# Altium footprint library CONN_USB.PcbLib: 34 footprints (part 2 of 3)
Each footprint in its own frame and in the unit in brackets; x right, y up, seen from the top. Pads: shape width x height; smd on the part's side, far side on the other; paste and mask are expansions set on the pad; w line width, h text height; cw(c..) or ccw(c..) is an arc to the next point about the centre after c.
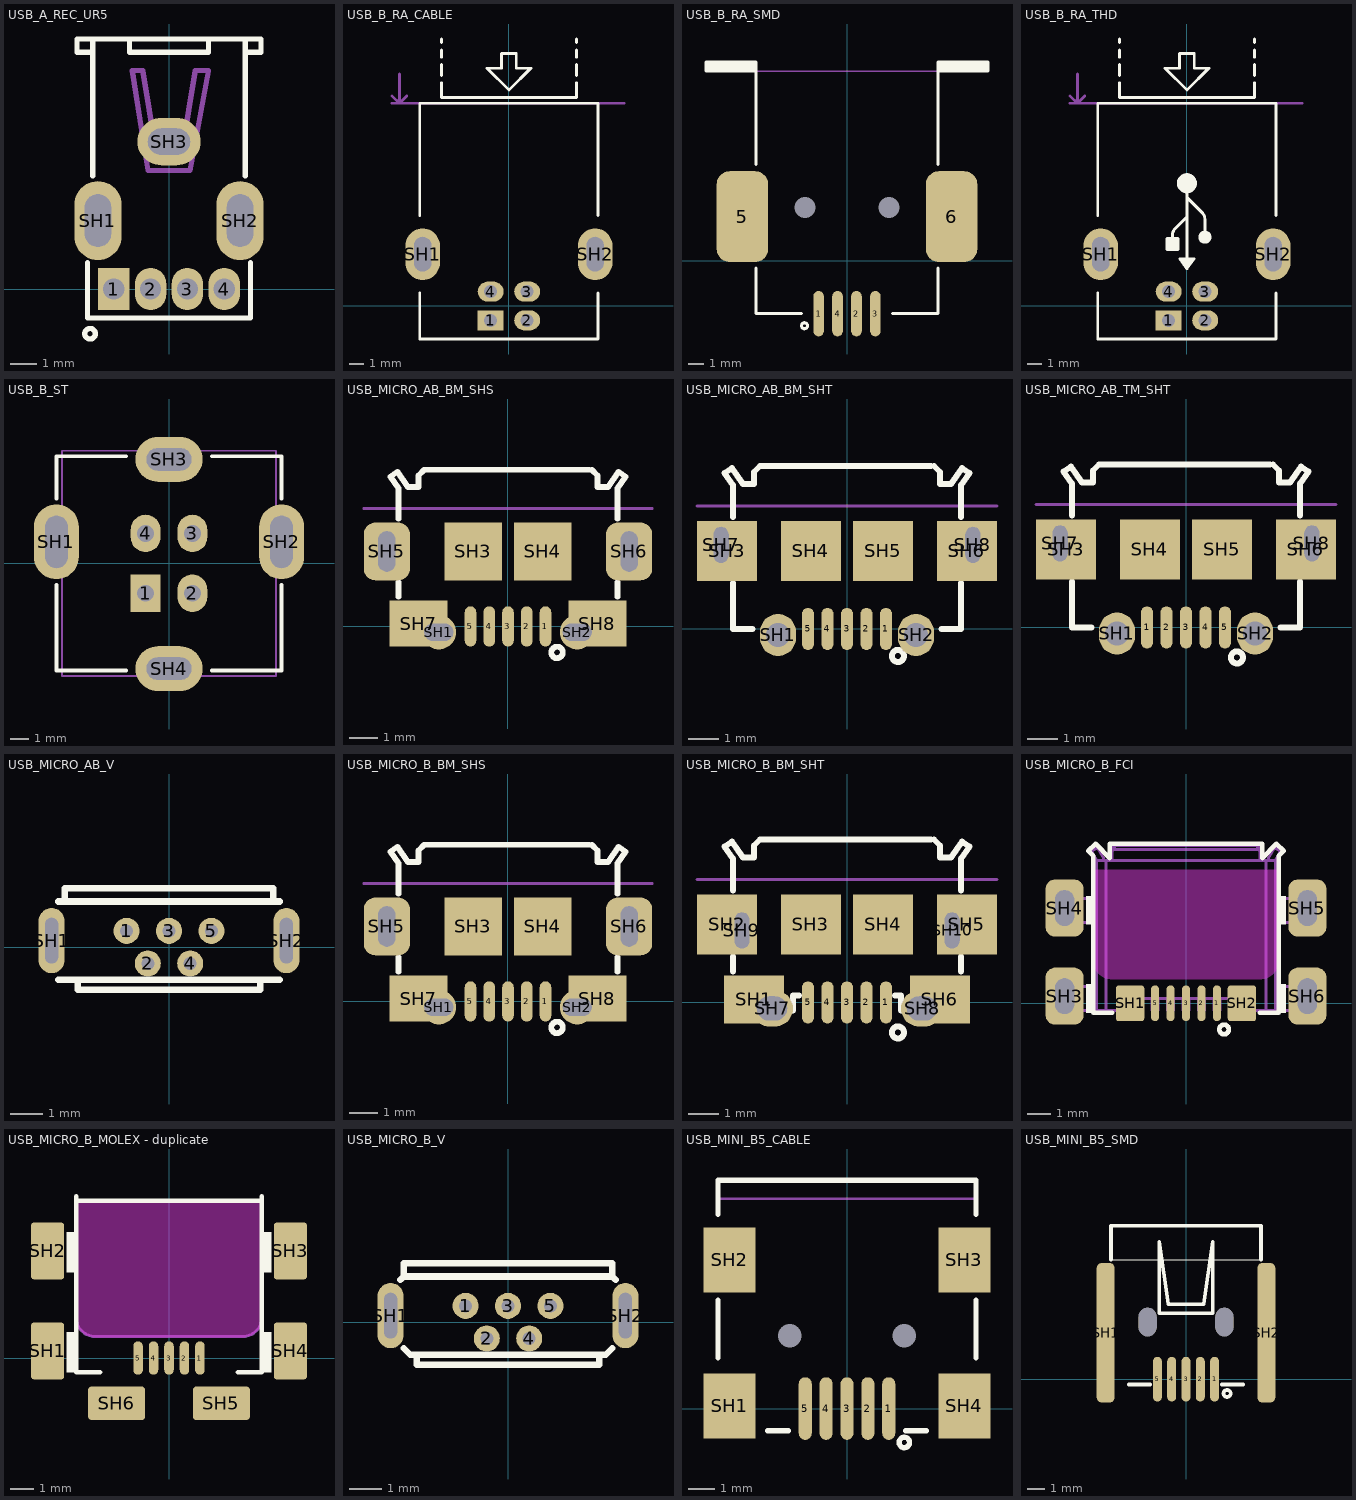
[diagram p1: the footprints below, top view; thin cyan lines are the x and y axes]

## USB_A_REC_UR5 [mm] "CONN, USB A, upright, Right Angle, VERTICAL, THD"
height 13.83
pads (7):
  rect 1.2x1.6 hole 0.8: 1(-2.1,0)
  oval 1.2x1.6 hole 0.8: 2(-0.7,0) 3(0.7,0) 4(2.1,0)
  oval 1.8x3 hole 1 slot 2 at 90 deg: SH1(-2.7,2.6) SH2(2.7,2.6)
  oval 2.4x1.8 hole 1 slot 1.6 at 0 deg: SH3(0,5.6)
Top Overlay:
  circle w0.2: c-3,-1.7 r0.2
  lines w0.2: -3.1,1 -3.1,-1.1 3.1,-1.1 3.1,1 ; -2.9,4.3 -2.9,9.5 ; -2.9,9 -3.5,9 -3.5,9.5 -2.9,9.5 ; -1.5,9.5 -1.5,9 1.5,9 1.5,9.5 ; 2.9,4.3 2.9,9.5 ; 2.9,9 3.5,9 3.5,9.5 2.9,9.5 ; -2.9,9.5 2.9,9.5
Mechanical 13:
  lines w0.2: -1.4,8.3 -0.8,4.5 0.8,4.5 1.5,8.3 1,8.3 0.5,5.3 -0.5,5.3 -1,8.3 -1.4,8.3
3D body "usb-a-upright.step": height 14.52, standoff -1.95, extent -3.33,-1.1 3.53,9.28

## USB_B_RA_CABLE [mm] "CONN, USB B, Receptacle, RIGHT ANGLE, THD"
height 11.1
pads (6):
  rect 1.8x1.4 hole 0.9: 1(-1.27,-1)
  oval 1.8x1.4 hole 0.9: 2(1.27,-1) 3(1.27,1) 4(-1.27,1)
  oval 2.4x3.6 hole 1.2 slot 2.4 at 90 deg: SH1(-6,3.6) SH2(6,3.6)
Top Overlay:
  lines w0.2: -6.2,0.9 -6.2,-2.3 6.2,-2.3 6.2,0.9 ; -6.2,6.3 -6.2,14.1 6.2,14.1 6.2,6.3 ; -4.699,15.524 -4.699,14.508 4.699,14.508 4.699,15.524 ; -4.699,16.032 -4.699,16.794 ; -4.699,17.302 -4.699,17.81 ; -4.699,18.318 -4.699,18.572 ; 4.699,16.032 4.699,16.794 ; 4.699,17.302 4.699,17.81 ; 4.699,18.318 4.699,18.572 ; -1.524,16.54 0,15.016 1.524,16.54 0.508,16.54 0.508,17.556 -0.508,17.556 -0.508,16.54 -1.524,16.54
Mechanical 13:
  lines w0.2: -8.128,14.1 8.001,14.1 ; -8.128,14.608 -7.62,14.1 ; -7.62,16.132 -7.62,14.1 ; -7.112,14.608 -7.62,14.1
  text "Edge of Board" at -6.6,14.8 h1
3D body "User Library-Samtec - USB-B-S-X-W-TH.STEP": height 11.1, standoff -3.54, extent -7.454,-2.522 7.345,13.978
3D body "Samtec-DEFAULT.STEP": height 11.05, standoff 0.55, extent -5.575,2.582 5.625,68.532

## USB_B_RA_SMD [mm] "CONN, USB B, Receptacle, RIGHT ANGLE, SMD"
height 11
pads (8):
  oval 0.7x3 smd mask+0.075: 1(-1.875,-3.5) 2(0.625,-3.5) 3(1.875,-3.5) 4(-0.625,-3.5)
  rrect50% 3.4x6 smd: 5(-6.9,2.9) 6(6.9,2.9)
  round 1.1 hole 1.4 unplated: ""(-2.775,3.5) ""(2.775,3.5)
Top Overlay:
  circle w0.2: c-2.8,-4.3 r0.2
  region: 9.32,12.5 9.32,13.1 6.02,13.1 6.02,12.5
  region: -6.02,12.5 -6.02,13.1 -9.32,13.1 -9.32,12.5
  lines w0.2: -6.02,-0.5 -6.02,-3.5 -3,-3.5 ; -6.02,6.34 -6.02,12.5 ; 3,-3.5 6.02,-3.5 6.02,-0.5 ; 6.02,6.34 6.02,12.5 ; -6.02,12.5 -6.02,13.1 -9.32,13.1 -9.32,12.5 -6.02,12.5 ; 6.02,12.5 6.02,13.1 9.32,13.1 9.32,12.5 6.02,12.5
Mechanical 13:
  lines w0.1: -6.02,12.5 6.02,12.5
  text "PCB Edge" at 5.75,12.281 h0.25
3D body "14383.STEP": height 11, standoff -1.5, extent -8.097,-4.635 8.103,12.515
3D body "Samtec-DEFAULT.STEP": height 11.05, standoff 0.55, extent -5.702,3.305 5.498,69.255

## USB_B_RA_THD [mm] "CONN, USB B, Receptacle, RIGHT ANGLE, THD"
pads (6):
  rect 1.8x1.4 hole 0.9: 1(-1.27,-1)
  oval 1.8x1.4 hole 0.9: 2(1.27,-1) 3(1.27,1) 4(-1.27,1)
  oval 2.4x3.6 hole 1.2 slot 2.4 at 90 deg: SH1(-6,3.6) SH2(6,3.6)
Top Overlay:
  circle w0.508: c1.25,4.785 r0.2
  circle w0.889: c0,8.535 r0.254
  region: -1.375,3.935 -1.375,4.685 -0.625,4.685 -0.625,3.935
  region: 0,2.585 -0.5,3.285 0.5,3.285
  lines w0.2: -6.2,0.9 -6.2,-2.3 6.2,-2.3 6.2,0.9 ; -6.2,6.3 -6.2,14.1 6.2,14.1 6.2,6.3 ; -4.699,15.524 -4.699,14.508 4.699,14.508 4.699,15.524 ; -4.699,16.032 -4.699,16.794 ; -4.699,17.302 -4.699,17.81 ; -4.699,18.318 -4.699,18.572 ; -1,4.685 -1,4.935 cw(c-0.36,4.935) -0.812,5.388 -0.062,6.138 ; 0,3.285 0,8.035 ; 0.062,7.488 1.062,6.488 cw(c0.61,6.035) 1.25,6.035 1.25,4.785 ; 4.699,16.032 4.699,16.794 ; 4.699,17.302 4.699,17.81 ; 4.699,18.318 4.699,18.572 ; -1.524,16.54 0,15.016 1.524,16.54 0.508,16.54 0.508,17.556 -0.508,17.556 -0.508,16.54 -1.524,16.54 ; -1.375,3.935 -0.625,3.935 -0.625,4.685 -1.375,4.685 -1.375,3.935 ; -0.5,3.285 0.5,3.285 0,2.585 -0.5,3.285
Mechanical 13:
  lines w0.2: -8.128,14.1 8.001,14.1 ; -8.128,14.608 -7.62,14.1 ; -7.62,16.132 -7.62,14.1 ; -7.112,14.608 -7.62,14.1
  text "Edge of Board" at -6.6,14.8 h1
3D body "User Library-Samtec - USB-B-S-X-W-TH.STEP": height 11.1, standoff -3.54, extent -7.454,-2.522 7.345,13.978

## USB_B_ST [mm] "CONN, USB B, Receptacle, STRAIGHT, THD"
height 15.62
pads (8):
  rect 1.6x2 hole 0.9: 1(-1.25,-1.6)
  oval 1.6x2 hole 0.9: 2(1.25,-1.6) 3(1.25,1.6) 4(-1.25,1.6)
  oval 2.4x4 hole 1.2 slot 2.8 at 90 deg: SH1(-6.02,1.15) SH2(6.02,1.15)
  oval 3.6x2.4 hole 1.2 slot 2.4 at 0 deg: SH3(0,5.56) SH4(0,-5.63)
Top Overlay:
  lines w0.2: -6.02,-1.15 -6.02,-5.73 -2.3,-5.73 ; -6.02,3.45 -6.02,5.73 -2.3,5.73 ; 2.3,-5.73 6.02,-5.73 6.02,-1.15 ; 2.3,5.73 6.02,5.73 6.02,3.45
Mechanical 13:
  lines w0.1: -5.73,-6.02 5.73,-6.02 5.73,6.02 -5.73,6.02 -5.73,-6.02
3D body "5881.STEP": height 15.8, standoff -4.74, extent -7.55,-5.65 7.548,5.85

## USB_MICRO_AB_BM_SHS [mm] "CONN, USB Micro AB - Standard (Bottom mount), Shell THD, TE 1981584-1"
height 2.8
pads (13):
  oval 0.4x1.4 smd mask+0.05: 1(1.3,0) 2(0.65,0) 3(0,0) 4(-0.65,0) 5(-1.3,0)
  round 1.2 hole 0.6 slot 1 at 0 deg mask+0.05: SH1(-2.4,-0.2) SH2(2.4,-0.2)
  rect 2x2 smd: SH3(-1.2,2.6) SH4(1.2,2.6)
  rrect50% 1.6x2 / inner oval 0.8x1.6 / far side oval 0.8x1.6 hole 0.6 slot 1.4 at 90 deg: SH5(-4.2,2.6) SH6(4.2,2.6)
  rect 2x1.6 smd: SH7(-3.1,0.1) SH8(3.1,0.1)
Top Overlay:
  circle w0.2: c1.7,-0.9 r0.2
  lines w0.2: -3.8,1.03 -3.8,1.53 ; -3.8,3.73 -3.8,4.791 -4.078,5.192 -3.831,5.363 -3.462,4.83 -3.1,4.83 -3.1,5.23 -2.9,5.43 2.8,5.43 ; 2.9,5.43 3.1,5.23 3.1,4.83 3.462,4.83 3.831,5.363 4.078,5.192 3.8,4.791 3.8,3.73 ; 3.8,1.03 3.8,1.53
Mechanical 13:
  lines w0.1: -5,4.092 5,4.092
  text "PCB EDGE" at -2.7,4.4 h0.8
3D body "c-1981584-1-f-3d.stp": height 2.78, standoff -0.28, extent -4.4,-0.2 4.4,5.4

## USB_MICRO_AB_BM_SHT [mm] "CONN, USB Micro AB - Standard (Bottom mount), Shell THD, G610"
pads (13):
  oval 0.4x1.4 smd: 1(1.3,0) 2(0.65,0) 3(0,0) 4(-0.65,0) 5(-1.3,0)
  oval 1.2x1.4 hole 0.8 mask+0.05: SH1(-2.3,-0.2) SH2(2.3,-0.2)
  rect 2x2 smd paste-0.2: SH3(-4,2.6) SH4(-1.2,2.6) SH5(1.2,2.6) SH6(4,2.6)
  oval 0.8x1.6 hole 0.5 slot 1.2 at 90 deg: SH7(-4.2,2.8) SH8(4.2,2.8)
Top Overlay:
  circle w0.2: c1.7,-0.9 r0.2
  lines w0.2: -3.8,1.53 -3.8,0 -3.15,0 ; -3.8,3.73 -3.8,4.791 -4.078,5.192 -3.831,5.363 -3.462,4.83 -3.1,4.83 -3.1,5.23 -2.9,5.43 2.8,5.43 ; 2.9,5.43 3.1,5.23 3.1,4.83 3.462,4.83 3.831,5.363 4.078,5.192 3.8,4.791 3.8,3.73 ; 3.15,0 3.8,0 3.8,1.53 3.8,1.03
Mechanical 13:
  lines w0.1: -5,4.092 5,4.092
  text "PCB EDGE" at -2.7,4.4 h0.8
3D body "475890001.stp": height 2.76, standoff -0.58, extent -4.325,-0.37 4.325,5.425

## USB_MICRO_AB_TM_SHT [mm] "CONN, USB Micro AB, Top mount, Shell THT, molex 475900001"
height 2.8
pads (13):
  oval 0.4x1.4 smd: 1(-1.3,0) 2(-0.65,0) 3(0,0) 4(0.65,0) 5(1.3,0)
  oval 1.2x1.4 hole 0.8 mask+0.05: SH1(-2.3,-0.2) SH2(2.3,-0.2)
  rect 2x2 smd: SH3(-4,2.6) SH4(-1.2,2.6) SH5(1.2,2.6) SH6(4,2.6)
  oval 0.8x1.6 hole 0.5 slot 1.2 at 90 deg: SH7(-4.2,2.8) SH8(4.2,2.8)
Top Overlay:
  circle w0.2: c1.7,-1 r0.2
  lines w0.2: -3.8,1.53 -3.8,0 -3.15,0 ; -3.8,3.73 -3.8,4.791 -4.078,5.192 -3.831,5.363 -3.462,4.83 -3.1,4.83 -3.1,5.23 -2.9,5.43 2.8,5.43 ; 2.9,5.43 3.1,5.23 3.1,4.83 3.462,4.83 3.831,5.363 4.078,5.192 3.8,4.791 3.8,3.73 ; 3.15,0 3.8,0 3.8,1.53 3.8,1.03
Mechanical 13:
  lines w0.1: -5,4.092 5,4.092
  text "PCB EDGE" at -2.7,4.4 h0.8
3D body "475900001.stp": height 2.71, standoff -0.65, extent -4.325,-0.35 4.325,5.55

## USB_MICRO_AB_V [mm] "CONN, USB Micro AB Vertical"
height 1.2
pads (7):
  round 0.8 hole 0.4 mask+0.05: 1(-1.3,0.5) 2(-0.65,-0.5) 3(0,0.5) 4(0.65,-0.5) 5(1.3,0.5)
  oval 0.8x2 hole 0.4 slot 1.4 at 90 deg mask+0.05: SH1(-3.6,0.2) SH2(3.6,0.2)
Top Overlay:
  lines w0.2: -3.4,-1 3.4,-1 3,-1 ; -3.4,1.4 3.4,1.4 ; -3.2,1.4 -3.2,1.8 3.2,1.8 3.2,1.4 ; -2.8,-1 -2.8,-1.3 2.8,-1.3 2.8,-1
3D body "USB3106-30-0230-A.stp": height 5.61, standoff -2.3, extent -3.98,-1.23 3.98,1.705

## USB_MICRO_B_BM_SHS [mm] "CONN, USB Micro B - Standard (Bottom mount), Shell SMD, 473460001, ZX62-AB-5PA"
pads (13):
  oval 0.4x1.4 smd mask+0.05: 1(1.3,0) 2(0.65,0) 3(0,0) 4(-0.65,0) 5(-1.3,0)
  round 1.2 hole 0.6 slot 1 at 0 deg mask+0.05: SH1(-2.4,-0.2) SH2(2.4,-0.2)
  rect 2x2 smd: SH3(-1.2,2.6) SH4(1.2,2.6)
  rrect50% 1.6x2 / inner oval 0.8x1.6 / far side oval 0.8x1.6 hole 0.6 slot 1.4 at 90 deg: SH5(-4.2,2.6) SH6(4.2,2.6)
  rect 2x1.6 smd: SH7(-3.1,0.1) SH8(3.1,0.1)
Top Overlay:
  circle w0.2: c1.7,-0.9 r0.2
  lines w0.2: -3.8,1.03 -3.8,1.53 ; -3.8,3.73 -3.8,4.791 -4.078,5.192 -3.831,5.363 -3.462,4.83 -3.1,4.83 -3.1,5.23 -2.9,5.43 2.8,5.43 ; 2.9,5.43 3.1,5.23 3.1,4.83 3.462,4.83 3.831,5.363 4.078,5.192 3.8,4.791 3.8,3.73 ; 3.8,1.03 3.8,1.53
Mechanical 13:
  lines w0.1: -5,4.092 5,4.092
  text "PCB EDGE" at -2.7,4.4 h0.8
3D body "473460001.stp": height 2.72, standoff -0.22, extent -3.99,-0.3 3.99,5.13

## USB_MICRO_B_BM_SHT [mm] "CONN, USB Micro AB - Standard (Bottom mount), Shell SMT"
height 2.8
pads (15):
  oval 0.4x1.4 smd: 1(1.3,0) 2(0.65,0) 3(0,0) 4(-0.65,0) 5(-1.3,0)
  rect 2x1.6 smd: SH1(-3.1,0.1) SH6(3.1,0.1)
  rect 2x2 smd: SH2(-4,2.6) SH3(-1.2,2.6) SH4(1.2,2.6) SH5(4,2.6)
  oval 1.4x1.2 hole 0.8 slot 1 at 0 deg mask+0.05: SH7(-2.5,-0.2) SH8(2.5,-0.2)
  oval 0.8x1.6 hole 0.5 slot 1.2 at 90 deg: SH9(-3.5,2.4) SH10(3.5,2.4)
Top Overlay:
  circle w0.2: c1.7,-1 r0.2
  lines w0.2: -3.8,1.03 -3.8,1.53 ; -3.8,3.73 -3.8,4.791 -4.078,5.192 -3.831,5.363 -3.462,4.83 -3.1,4.83 -3.1,5.23 -2.9,5.43 2.8,5.43 ; -1.9,-0.27 -1.8,-0.27 -1.8,0.23 -1.6,0.23 ; 1.6,0.23 1.8,0.23 1.8,-0.27 1.9,-0.27 ; 2.9,5.43 3.1,5.23 3.1,4.83 3.462,4.83 3.831,5.363 4.078,5.192 3.8,4.791 3.8,3.73 ; 3.8,1.03 3.8,1.53
Mechanical 13:
  lines w0.1: -5,4.092 5,4.092
  text "PCB EDGE" at -2.7,4.4 h0.8
3D body "User Library-MicroUSB-B_Molex_105017-0001.step": height 2.68, standoff -0.63, extent -4.1,-0.45 4.1,4.98

## USB_MICRO_B_FCI [mm] "CONN, USB Micro AB"
height 2.286
pads (11):
  oval 0.35x1.5 smd: 1(1.3,0) 2(0.65,0) 3(0,0) 4(-0.65,0) 5(-1.3,0)
  rrect20% 1.2x1.5 smd: SH1(-2.35,0) SH2(2.35,0)
  rrect50% 1.6x2.4 hole 0.8 slot 1.5 at 90 deg: SH3(-5.1,0.3) SH4(-5.1,4) SH5(5.1,4) SH6(5.1,0.3)
Top Overlay:
  circle w0.2: c1.6,-1.1 r0.2
  rectangle: -4.2,3.3 -3.8,4.5
  region: 4.2,4.5 3.8,4.5 3.8,3.3 4.2,3.3
  region: 4.2,0.8 3.8,0.8 3.8,-0.4 4.2,-0.4
  rectangle: -4.2,-0.4 -3.8,0.8
  lines w0.2: -3.9,-0.4 -3.1,-0.4 ; -3.9,0.8 -3.9,3.3 ; -3.9,4.5 -3.9,6.2 -4.1,6.4 -3.8,6.7 -3.2,6.1 -3.2,6.7 3.2,6.7 3.2,6.1 3.8,6.7 4.1,6.4 3.9,6.2 3.9,4.5 ; 3.1,-0.4 3.9,-0.4 ; 3.9,0.8 3.9,3.3
Keep-Out Layer:
  board cut-out: 3.9,5.6 3.9,1.803 3.9,1.725 3.869,1.57 3.809,1.425 3.721,1.293 3.61,1.182 3.479,1.094 3.333,1.034 3.179,1.003 3.1,1.003 -3.1,1.003 -3.179,1.003 -3.333,1.034 -3.479,1.094 -3.61,1.182 -3.721,1.293 -3.809,1.425 -3.869,1.57 -3.9,1.725 -3.9,1.803 -3.9,5.6
Mechanical 13:
  lines w0.127: -4.85,-0.3 -4.85,0.7 ; -4.85,3.4 -4.85,4.4 ; -3.97,6.381 -3.71,6.531 ; -3.85,-0.3 -3.85,0.7 ; -3.85,3.4 -3.85,4.4 ; -3.75,-0.3 -3.75,6 ; -3.75,0.7 -5.25,0.7 -5.25,-0.3 -2.577,-0.3 ccw(c-2.577,-0.1) -2.443,-0.248 -2.007,0.148 cw(c-1.873,0) -1.873,0.2 1.873,0.2 cw(c1.873,0) 2.007,0.148 2.443,-0.248 ccw(c2.577,-0.1) 2.577,-0.3 5.25,-0.3 5.25,0.7 3.75,0.7 ; -3.75,3.4 -5.25,3.4 -5.25,4.4 -3.75,4.4 ; -3.45,6 ccw(c-3.75,6.001) -3.49,6.151 -3.76,6.618 -4.02,6.468 -3.75,6 ; -3.35,-0.3 -3.35,6 ; -3.1,6.381 cw(c-3.006,6.374) -3,6.468 ; -2.526,-0.3 -2.526,-0.293 ; -2.229,-0.053 cw(c-2.275,-0.3) -2.024,-0.3 -1.825,-0.3 -1.825,0.2 ; -1.425,0.2 -1.425,-0.3 -1.175,-0.3 -1.175,0.2 ; -0.775,0.2 -0.775,-0.3 -0.525,-0.3 -0.525,0.2 ; -0.125,0.2 -0.125,-0.3 0.125,-0.3 0.125,0.2 ; 0.525,0.2 0.525,-0.3 0.775,-0.3 0.775,0.2 ; 1.175,0.2 1.175,-0.3 1.425,-0.3 1.425,0.2 ; 1.825,0.2 1.825,-0.3 2.024,-0.3 cw(c2.275,-0.3) 2.229,-0.053 ; 2.526,-0.3 2.526,-0.293 ; 3.1,6.381 ccw(c3.006,6.374) 3,6.468 ; 3.35,-0.3 3.35,6 ; 3.45,6 cw(c3.75,6.001) 3.49,6.151 3.76,6.618 4.02,6.468 3.75,6 ; 3.71,6.531 3.97,6.381 ; 3.75,-0.3 3.75,6 ; 3.75,3.4 5.25,3.4 5.25,4.4 3.75,4.4 ; 3.85,-0.3 3.85,0.7 ; 3.85,3.4 3.85,4.4 ; 4.85,-0.3 4.85,0.7 ; 4.85,3.4 4.85,4.4 ; -3.75,6 -3.1,6 ; -3.1,6.001 3.1,6 ; -3.1,6 -3.1,6.531 cw(c-3.006,6.524) -3,6.618 ; -3,6.468 3,6.468 ; -3,6.468 -3,6.618 ; -3,6.618 3,6.618 ; 3,6.468 3,6.618 ; 3,6.618 cw(c3.006,6.524) 3.1,6.531 3.1,6 ; 3.1,6 3.75,6
3D body "USB Micro B plug.STEP": height 4.67, standoff -3.53, extent -5.35,2.579 5.35,27.079
3D body "Micro USB B-type mid-mount FCI.STEP": height 2.15, standoff -0.92, extent -5.25,-0.3 5.25,6.618

## USB_MICRO_B_MOLEX - duplicate [mm] "CONN, USB Micro AB"
height 1.2
pads (11):
  oval 0.4x1.4 smd mask+0.05: 1(1.3,0) 2(0.65,0) 3(0,0) 4(-0.65,0) 5(-1.3,0)
  rrect20% 1.4x2.4 smd: SH1(-5.1,0.3) SH2(-5.1,4.5) SH3(5.1,4.5) SH4(5.1,0.3)
  rrect20% 2.4x1.4 smd: SH5(2.2,-1.9) SH6(-2.2,-1.9)
Top Overlay:
  rectangle: -4.3,-0.6 -3.8,1.1
  region: 4.3,1.1 3.8,1.1 3.8,-0.6 4.3,-0.6
  region: 4.3,5.3 3.8,5.3 3.8,3.6 4.3,3.6
  rectangle: -4.3,3.6 -3.8,5.3
  lines w0.2: -3.9,-0.6 -2.9,-0.6 ; -3.9,1.1 -3.9,6.8 ; -3.898,6.602 3.9,6.602 ; 2.9,-0.6 3.9,-0.6 ; 3.9,1.1 3.9,6.8
Keep-Out Layer:
  board cut-out: 3.9,6.602 3.9,1.675 3.9,1.596 3.869,1.442 3.809,1.296 3.721,1.165 3.61,1.054 3.479,0.966 3.333,0.906 3.179,0.875 3.1,0.875 -3.1,0.875 -3.179,0.875 -3.333,0.906 -3.479,0.966 -3.61,1.054 -3.721,1.165 -3.809,1.296 -3.869,1.442 -3.9,1.596 -3.9,1.675 -3.9,6.602
Mechanical 13:
  lines w0.127: -3.9,6.5 -3.9,1.7 ccw(c-3.1,1.7) -3.1,0.9 3.1,0.9 ccw(c3.1,1.7) 3.9,1.7 3.9,6.5
3D body "Micro USB B Receptacle Middle Mount.STEP": height 1.43, standoff -1.52, extent -5.5,-2.2 5.5,6.93
3D body "USB Micro B plug.STEP": height 4.1, standoff -4.1, extent -5.35,3.008 5.35,27.508

## USB_MICRO_B_V [mm] "CONN, USB Micro B Vertical"
height 1.2
pads (7):
  round 0.8 hole 0.4 mask+0.05: 1(-1.3,0.5) 2(-0.65,-0.5) 3(0,0.5) 4(0.65,-0.5) 5(1.3,0.5)
  oval 0.8x2 hole 0.4 slot 1.4 at 90 deg mask+0.05: SH1(-3.6,0.2) SH2(3.6,0.2)
Top Overlay:
  lines w0.2: -3.3,1.3 -3.2,1.4 ; -3.2,-0.8 -3,-1 3,-1 ; -2.8,-1 -2.8,-1.3 2.8,-1.3 2.8,-1 ; 3.2,-0.8 3,-1 ; 3.3,1.3 3.2,1.4 ; -3.2,1.4 -3.2,1.8 3.2,1.8 3.2,1.4 ; -3.2,1.4 3.2,1.4 ; 3,-1 3,-1
3D body "USB3131-30-0230-A.stp": height 5.71, standoff -2.2, extent -3.971,-1.228 3.971,1.704

## USB_MINI_B5_CABLE [mm] "CONN, USB MINI B, 5PIN, RIGHT ANGLE, SMD"
pads (11):
  oval 0.5x2.4 smd mask+0.05: 1(1.6,0) 2(0.8,0) 3(0,0) 4(-0.8,0) 5(-1.6,0)
  rect 2x2.5 smd: SH1(-4.5,0.1) SH2(-4.5,5.7) SH3(4.5,5.7) SH4(4.5,0.1)
  round 0.6 hole 0.9 unplated: ""(-2.2,2.8) ""(2.2,2.8)
Top Overlay:
  circle w0.2: c2.2,-1.3 r0.2
  lines w0.2: -4.95,1.95 -4.95,4.15 ; -4.95,7.45 -4.95,8.75 4.95,8.75 4.95,7.45 ; -3.05,-0.85 -2.25,-0.85 ; 2.25,-0.85 3.05,-0.85 ; 4.95,1.95 4.95,4.15
Mechanical 13:
  lines w0.1: -4.95,8.05 4.95,8.05
  text "PCB Edge" at 4.036,8.482 h0.25
3D body "usb_a-usb_b-m5-smd-c.STEP": height 3.98, standoff -0.95, extent -4.8,-0.725 5.1,8.525
3D body "Samtec-DEFAULT.STEP": height 5.8, standoff -1.8, extent -5.156,1.618 5.644,48.218

## USB_MINI_B5_SMD [mm] "CONN, USB MINI B, 5PIN, RIGHT ANGLE, SMD"
pads (9):
  oval 0.5x2.5 smd mask+0.075: 1(1.6,0) 2(0.8,0) 3(0,0) 4(-0.8,0) 5(-1.6,0)
  rrect50% 1x7.8 smd: SH1(-4.5,2.6) SH2(4.5,2.6)
  oval 1x1.6 hole 1 slot 1.6 at 90 deg unplated: ""(-2.15,3.2) ""(2.15,3.2)
Top Overlay:
  circle w0.2: c2.3,-0.8 r0.2
  lines w0.05: -4.2,6.7 4.2,6.7
  lines w0.2: -4.2,6.7 -4.2,8.6 4.2,8.6 4.2,6.7 ; -3.2,-0.3 -2,-0.3 ; 2,-0.3 3.2,-0.3 ; -1.5,3.7 1.5,3.7 1.5,7.7 1,4.2 -1,4.2 -1.5,7.7 -1.5,3.7
3D body "USB_mini_B.step": height 3.95, standoff -1, extent -5.35,-0.2 5.35,9